# Altium footprint library PcbLib1.PcbLib: 18 footprints (part 1 of 2)
Each footprint in its own frame and in the unit in brackets; x right, y up, seen from the top. Pads: shape width x height; smd on the part's side, far side on the other; paste and mask are expansions set on the pad; w line width, h text height; cw(c..) or ccw(c..) is an arc to the next point about the centre after c.
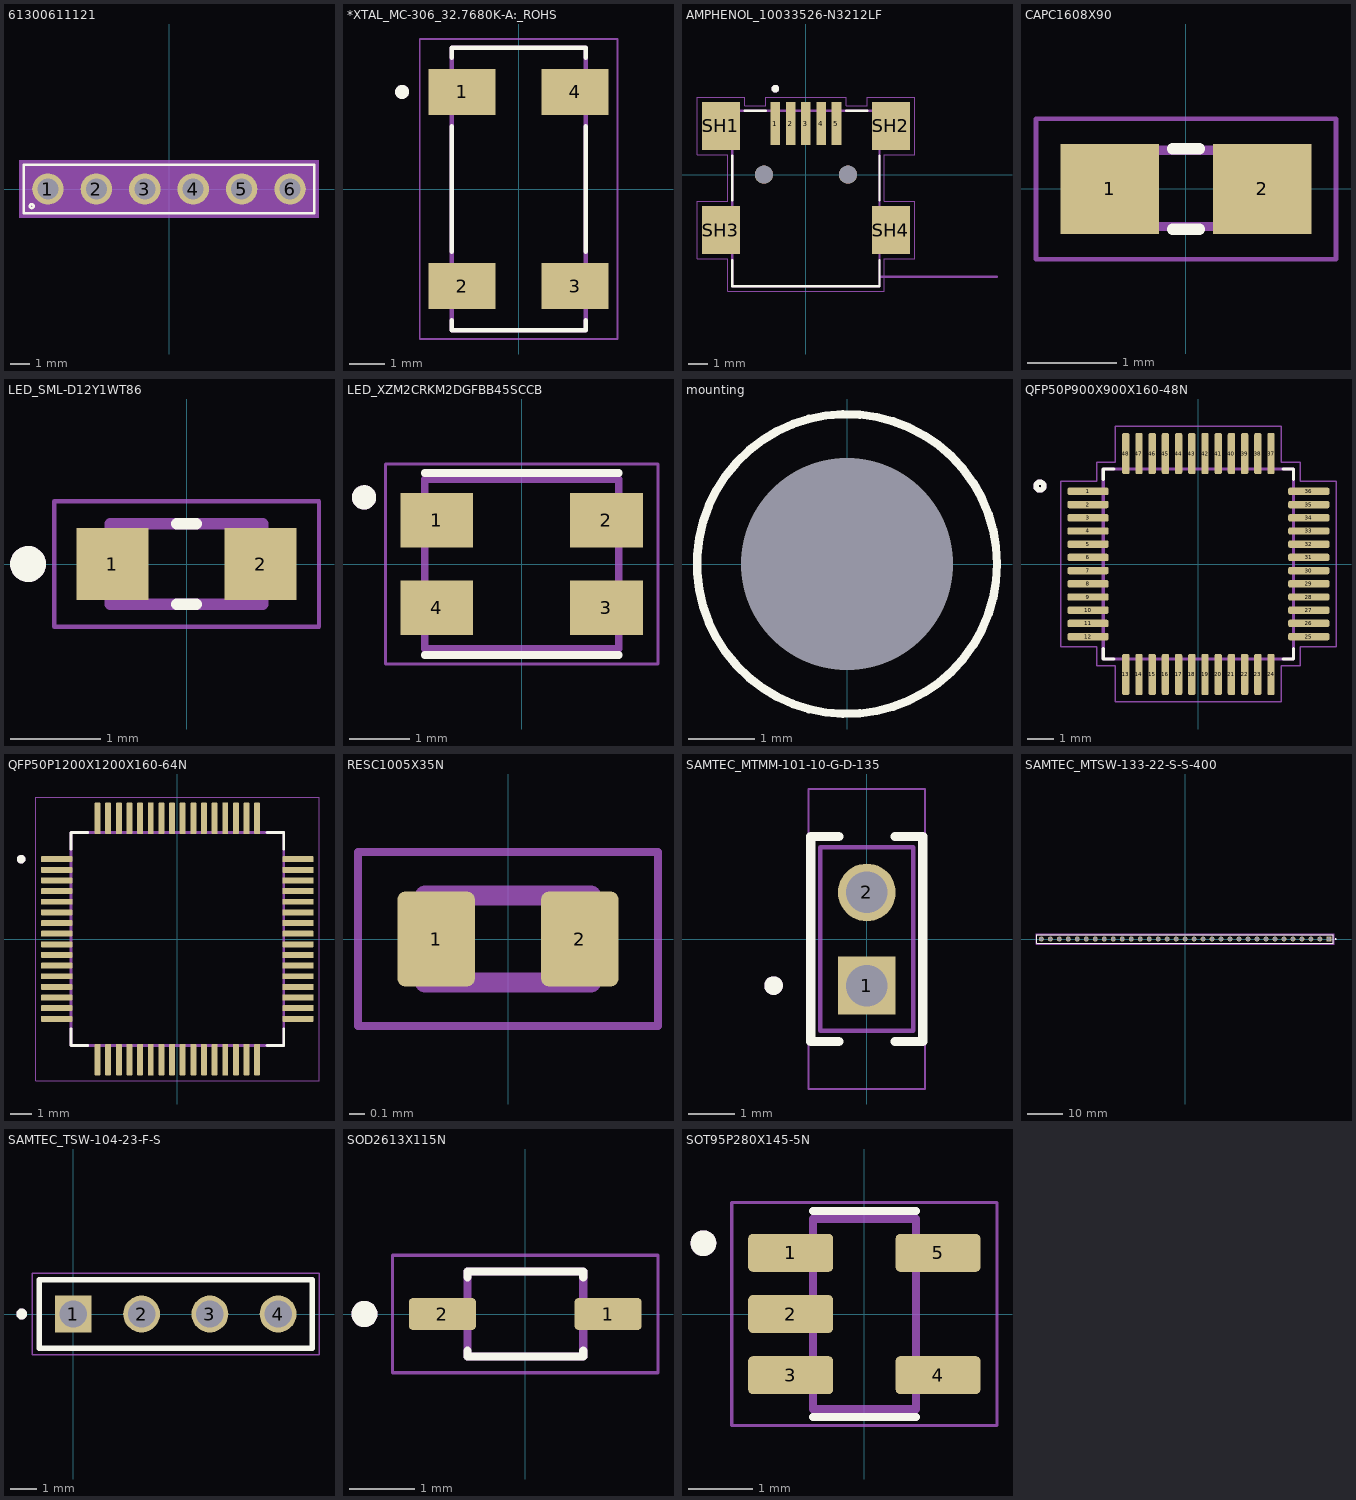
[diagram p0: the footprints below, top view; thin cyan lines are the x and y axes]

## 61300611121 [mm]
pads (6):
  round 1.65 hole 1.1: 1(-6.35,0) 2(-3.81,0) 3(-1.27,0) 4(1.27,0) 5(3.81,0) 6(6.35,0)
Top Overlay:
  circle w0.127: c-7.2,-0.9 r0.1
  lines w0.127: -7.62,-1.27 7.62,-1.27 7.62,1.27 -7.62,1.27 -7.62,-1.27
Mechanical 15:
  region: 7.87,-1.52 -7.87,-1.52 -7.87,1.52 7.87,1.52
3D body "61300611121.stp": height 8.55, standoff -2.99, extent -7.62,-1.27 7.62,1.27

## *XTAL_MC-306_32.7680K-A:_ROHS [mm]
pads (4):
  rect 1.9x1.3 smd: 1(-1.6,2.75) 2(-1.6,-2.75) 3(1.6,-2.75) 4(1.6,2.75)
Top Overlay:
  circle w0.2: c-3.3,2.75 r0.1
  lines w0.127: -1.9,-3.72 -1.9,-4 1.9,-4 1.9,-3.72 ; -1.9,-1.78 -1.9,1.78 ; -1.9,3.72 -1.9,4 1.9,4 1.9,3.72 ; 1.9,-1.78 1.9,1.78
Mechanical 4:
  circle w0.2: c-3.3,2.75 r0.1
  circle w0.2: c-3.3,2.75 r0.1
  lines w0.127: -1.9,-4 1.9,-4 ; -1.9,-4 -1.9,4 ; -1.9,-4 1.9,-4 ; -1.9,-4 -1.9,4 ; -1.9,4 1.9,4 ; -1.9,4 1.9,4 ; 1.9,-4 1.9,4 ; 1.9,-4 1.9,4
Mechanical 16:
  lines w0.05: -2.8,-4.25 2.8,-4.25 2.8,4.25 -2.8,4.25 -2.8,-4.25

## AMPHENOL_10033526-N3212LF [mm]
height 3.95
pads (11):
  rect 0.5x2.25 smd: 1(-1.6,2.675) 2(-0.8,2.675) 3(0,2.675) 4(0.8,2.675) 5(1.6,2.675)
  rect 2x2.5 smd: SH1(-4.45,2.55) SH2(4.45,2.55) SH3(-4.45,-2.9) SH4(4.45,-2.9)
  round 0.95 hole 0.95 unplated: ""(-2.2,0) ""(2.2,0)
Top Overlay:
  circle w0.2: c-1.6,4.5 r0.1
  lines w0.127: -3.85,-4.47 -3.85,-5.85 3.85,-5.85 3.85,-4.47 ; -3.85,-1.33 -3.85,0.98 ; -3.21,3.35 -2.1,3.35 ; 2.1,3.35 3.21,3.35 ; 3.85,-1.33 3.85,0.98
Mechanical 13:
  circle w0.2: c-1.6,4.5 r0.1
  lines w0.127: 10,-5.34 3.85,-5.34 ; 3.85,-5.34 3.85,-5.85 -3.85,-5.85 -3.85,3.35 3.85,3.35 3.85,-5.34
  text "PCB EDGE" at 4.254,-6.347 h0.8
Mechanical 15:
  lines w0.05: -5.7,-4.4 -5.7,-1.4 -4.1,-1.4 -4.1,1.05 -5.7,1.05 -5.7,4.05 -3.2,4.05 -3.2,3.6 -2.1,3.6 -2.1,4.05 2.1,4.05 2.1,3.6 3.2,3.6 3.2,4.05 5.7,4.05 5.7,1.05 4.1,1.05 4.1,-1.4 5.7,-1.4 5.7,-4.4 4.1,-4.4 4.1,-6.1 -4.1,-6.1 -4.1,-4.4 -5.7,-4.4
3D body "10033526-N3212LF--3DModel-STEP-554624.STEP": height 3.96, standoff -1.04, extent -4.95,-5.977 4.95,3.343

## CAPC1608X90 [mm]
pads (2):
  rect 1.1x1 smd: 1(-0.85,0) 2(0.85,0)
Top Overlay:
  lines w0.127: -0.15,-0.45 0.15,-0.45 ; -0.15,0.45 0.15,0.45
Mechanical 13:
  region: 0.83,-0.471 0.331,-0.471 0.331,0.48 0.83,0.48
  region: -0.338,-0.47 -0.839,-0.47 -0.839,0.48 -0.338,0.48
  lines w0.102: -0.356,-0.419 0.356,-0.419 ; -0.356,0.432 0.356,0.432
Mechanical 15:
  lines w0.051: -1.673,-0.783 -1.673,0.783 1.673,0.783 1.673,-0.783 -1.673,-0.783
3D body "step_temp.STEP": height 0.9, standoff 0, extent -0.8,-0.405 0.8,0.405

## LED_SML-D12Y1WT86 [mm]
pads (2):
  rect 0.8x0.8 smd: 1(-0.825,0) 2(0.825,0)
Top Overlay:
  circle w0.2: c-1.765,0 r0.1
  lines w0.127: -0.11,-0.45 0.11,-0.45 ; -0.11,0.45 0.11,0.45
Mechanical 13:
  circle w0.2: c-1.765,0 r0.1
  lines w0.127: -0.85,-0.45 -0.85,0.45 0.85,0.45 0.85,-0.45 -0.85,-0.45
Mechanical 15:
  lines w0.05: -1.475,-0.7 -1.475,0.7 1.475,0.7 1.475,-0.7 -1.475,-0.7

## LED_XZM2CRKM2DGFBB45SCCB [mm]
pads (4):
  rect 1.2x0.9 smd: 1(-1.4,0.725) 2(1.4,0.725) 3(1.4,-0.725) 4(-1.4,-0.725)
Top Overlay:
  circle w0.2: c-2.6,1.1 r0.1
  lines w0.127: -1.6,-1.5 1.6,-1.5 ; -1.6,1.5 1.6,1.5
Mechanical 13:
  circle w0.2: c-2.6,1.1 r0.1
  lines w0.127: -1.6,-1.4 -1.6,1.4 1.6,1.4 1.6,-1.4 -1.6,-1.4
Mechanical 15:
  lines w0.05: -2.25,-1.65 -2.25,1.65 2.25,1.65 2.25,-1.65 -2.25,-1.65

## mounting [mm]
pads (1):
  round 1 hole 3.2: ""(0,0)
Top Overlay:
  circle w0.127: c0,0 r2.261

## PCBComponent_1 [mm]

## QFP50P900X900X160-48N [mm]
pads (48):
  rrect50% 1.56x0.28 smd: 1(-4.18,2.75) 2(-4.18,2.25) 3(-4.18,1.75) 4(-4.18,1.25) 5(-4.18,0.75) 6(-4.18,0.25) 7(-4.18,-0.25) 8(-4.18,-0.75) 9(-4.18,-1.25) 10(-4.18,-1.75) 11(-4.18,-2.25) 12(-4.18,-2.75) 25(4.18,-2.75) 26(4.18,-2.25) 27(4.18,-1.75) 28(4.18,-1.25) 29(4.18,-0.75) 30(4.18,-0.25) 31(4.18,0.25) 32(4.18,0.75) 33(4.18,1.25) 34(4.18,1.75) 35(4.18,2.25) 36(4.18,2.75)
  rrect50% 0.28x1.56 smd: 13(-2.75,-4.18) 14(-2.25,-4.18) 15(-1.75,-4.18) 16(-1.25,-4.18) 17(-0.75,-4.18) 18(-0.25,-4.18) 19(0.25,-4.18) 20(0.75,-4.18) 21(1.25,-4.18) 22(1.75,-4.18) 23(2.25,-4.18) 24(2.75,-4.18) 37(2.75,4.18) 38(2.25,4.18) 39(1.75,4.18) 40(1.25,4.18) 41(0.75,4.18) 42(0.25,4.18) 43(-0.25,4.18) 44(-0.75,4.18) 45(-1.25,4.18) 46(-1.75,4.18) 47(-2.25,4.18) 48(-2.75,4.18)
Top Overlay:
  circle w0.2: c-6,2.95 r0.15
  lines w0.127: -3.6,-3.21 -3.6,-3.6 -3.21,-3.6 ; -3.6,3.21 -3.6,3.6 -3.21,3.6 ; 3.21,-3.6 3.6,-3.6 3.6,-3.21 ; 3.21,3.6 3.6,3.6 3.6,3.21
Mechanical 13:
  circle w0.2: c-6,2.95 r0.15
  lines w0.127: -3.6,-3.6 3.6,-3.6 3.6,3.6 -3.6,3.6 -3.6,-3.6
Mechanical 15:
  lines w0.05: -5.21,-3.14 -3.85,-3.14 -3.85,-3.85 -3.14,-3.85 -3.14,-5.21 3.14,-5.21 3.14,-3.85 3.85,-3.85 3.85,-3.14 5.21,-3.14 5.21,3.14 3.85,3.14 3.85,3.85 3.14,3.85 3.14,5.21 -3.14,5.21 -3.14,3.85 -3.85,3.85 -3.85,3.14 -5.21,3.14 -5.21,-3.14
3D body "step_temp.STEP": height 1.46, standoff -0.14, extent -4.5,-4.5 4.5,4.5

## QFP50P1200X1200X160-64N [mm]
pads (64):
  rrect25% 1.47x0.28 smd: 1(-5.67,3.75) 2(-5.67,3.25) 3(-5.67,2.75) 4(-5.67,2.25) 5(-5.67,1.75) 6(-5.67,1.25) 7(-5.67,0.75) 8(-5.67,0.25) 9(-5.67,-0.25) 10(-5.67,-0.75) 11(-5.67,-1.25) 12(-5.67,-1.75) 13(-5.67,-2.25) 14(-5.67,-2.75) 15(-5.67,-3.25) 16(-5.67,-3.75) 33(5.67,-3.75) 34(5.67,-3.25) 35(5.67,-2.75) 36(5.67,-2.25) 37(5.67,-1.75) 38(5.67,-1.25) 39(5.67,-0.75) 40(5.67,-0.25) 41(5.67,0.25) 42(5.67,0.75) 43(5.67,1.25) 44(5.67,1.75) 45(5.67,2.25) 46(5.67,2.75) 47(5.67,3.25) 48(5.67,3.75)
  rrect25% 0.28x1.47 smd: 17(-3.75,-5.67) 18(-3.25,-5.67) 19(-2.75,-5.67) 20(-2.25,-5.67) 21(-1.75,-5.67) 22(-1.25,-5.67) 23(-0.75,-5.67) 24(-0.25,-5.67) 25(0.25,-5.67) 26(0.75,-5.67) 27(1.25,-5.67) 28(1.75,-5.67) 29(2.25,-5.67) 30(2.75,-5.67) 31(3.25,-5.67) 32(3.75,-5.67) 49(3.75,5.67) 50(3.25,5.67) 51(2.75,5.67) 52(2.25,5.67) 53(1.75,5.67) 54(1.25,5.67) 55(0.75,5.67) 56(0.25,5.67) 57(-0.25,5.67) 58(-0.75,5.67) 59(-1.25,5.67) 60(-1.75,5.67) 61(-2.25,5.67) 62(-2.75,5.67) 63(-3.25,5.67) 64(-3.75,5.67)
Top Overlay:
  circle w0.2: c-7.34,3.75 r0.1
  lines w0.127: -5,-4.21 -5,-5 -4.21,-5 ; -5,4.21 -5,5 -4.21,5 ; 4.21,-5 5,-5 5,-4.21 ; 4.21,5 5,5 5,4.21
Mechanical 13:
  circle w0.2: c-7.34,3.75 r0.1
  lines w0.127: -5,-5 5,-5 5,5 -5,5 -5,-5
Mechanical 15:
  lines w0.05: -6.655,-6.655 6.655,-6.655 6.655,6.655 -6.655,6.655 -6.655,-6.655
3D body "STM32F030R8T6.STEP": height 1.46, standoff -0.14, extent -6,-6 6,6

## RESC1005X35N [mm]
pads (2):
  rrect20% 0.49x0.6 smd: 1(-0.455,0) 2(0.455,0)
Mechanical 13:
  lines w0.127: -0.525,-0.275 -0.525,0.275 0.525,0.275 0.525,-0.275 -0.525,-0.275
Mechanical 15:
  lines w0.05: -0.95,-0.55 -0.95,0.55 0.95,0.55 0.95,-0.55 -0.95,-0.55

## SAMTEC_MTMM-101-10-G-D-135 [mm]
pads (2):
  rect 1.24x1.24 hole 0.89: 1(0,-1)
  round 1.24 hole 0.89: 2(0,1)
Top Overlay:
  circle w0.2: c-2,-1 r0.1
  lines w0.2: -0.605,-2.2 -1.2,-2.2 -1.2,2.2 -0.605,2.2 ; 0.605,-2.2 1.2,-2.2 1.2,2.2 0.605,2.2
Top Paste:
  region: 0.255,1.98 0.255,1.973 0.256,1.966 0.257,1.96 0.258,1.953 0.259,1.946 0.261,1.94 0.264,1.933 0.266,1.927 0.269,1.921 0.272,1.915 0.276,1.909 0.28,1.904 0.284,1.898 0.288,1.893 0.293,1.888 0.298,1.883 0.303,1.879 0.309,1.875 0.314,1.871 0.32,1.867 0.326,1.864 0.332,1.861 0.338,1.859 0.345,1.856 0.351,1.854 0.358,1.853 0.365,1.852 0.371,1.851 0.378,1.85 0.85,1.85 0.85,0.15 -0.85,0.15 -0.85,1.85 -0.378,1.85 -0.371,1.851 -0.365,1.852 -0.358,1.853 -0.351,1.854 -0.345,1.856 -0.338,1.859 -0.332,1.861 -0.326,1.864 -0.32,1.867 -0.314,1.871 -0.309,1.875 -0.303,1.879 -0.298,1.883 -0.293,1.888 -0.288,1.893 -0.284,1.898 -0.28,1.904 -0.276,1.909 -0.272,1.915 -0.269,1.921 -0.266,1.927 -0.264,1.933 -0.261,1.94 -0.259,1.946 -0.258,1.953 -0.257,1.96 -0.256,1.966 -0.255,1.973 -0.255,1.98 -0.255,2.97 0.255,2.97
  region: 0.85,-1.85 0.378,-1.85 0.371,-1.851 0.365,-1.852 0.358,-1.853 0.351,-1.854 0.345,-1.856 0.338,-1.859 0.332,-1.861 0.326,-1.864 0.32,-1.867 0.314,-1.871 0.309,-1.875 0.303,-1.879 0.298,-1.883 0.293,-1.888 0.288,-1.893 0.284,-1.898 0.28,-1.904 0.276,-1.909 0.272,-1.915 0.269,-1.921 0.266,-1.927 0.264,-1.933 0.261,-1.94 0.259,-1.946 0.258,-1.953 0.257,-1.96 0.256,-1.966 0.255,-1.973 0.255,-1.98 0.255,-2.97 -0.255,-2.97 -0.255,-1.98 -0.255,-1.973 -0.256,-1.966 -0.257,-1.96 -0.258,-1.953 -0.259,-1.946 -0.261,-1.94 -0.264,-1.933 -0.266,-1.927 -0.269,-1.921 -0.272,-1.915 -0.276,-1.909 -0.28,-1.904 -0.284,-1.898 -0.288,-1.893 -0.293,-1.888 -0.298,-1.883 -0.303,-1.879 -0.309,-1.875 -0.314,-1.871 -0.32,-1.867 -0.326,-1.864 -0.332,-1.861 -0.338,-1.859 -0.345,-1.856 -0.351,-1.854 -0.358,-1.853 -0.365,-1.852 -0.371,-1.851 -0.378,-1.85 -0.85,-1.85 -0.85,-0.15 0.85,-0.15
Mechanical 13:
  circle w0.2: c-2,-1 r0.1
  lines w0.1: -1,-1.97 1,-1.97 1,1.97 -1,1.97 -1,-1.97
Mechanical 15:
  lines w0.05: -1.25,-3.22 1.25,-3.22 1.25,3.22 -1.25,3.22 -1.25,-3.22

## SAMTEC_MTSW-133-22-S-S-400 [mm]
pads (33):
  rect 1.37x1.37 / inner round 1.37 / far side rect 1.37x1.37 hole 1.02: 1(40.64,0)
  round 1.37 hole 1.02: 2(38.1,0) 3(35.56,0) 4(33.02,0) 5(30.48,0) 6(27.94,0) 7(25.4,0) 8(22.86,0) 9(20.32,0) 10(17.78,0) 11(15.24,0) 12(12.7,0) 13(10.16,0) 14(7.62,0) 15(5.08,0) 16(2.54,0) 17(0,0) 18(-2.54,0) 19(-5.08,0) 20(-7.62,0) 21(-10.16,0) 22(-12.7,0) 23(-15.24,0) 24(-17.78,0) 25(-20.32,0) 26(-22.86,0) 27(-25.4,0) 28(-27.94,0) 29(-30.48,0) 30(-33.02,0) 31(-35.56,0) 32(-38.1,0) 33(-40.64,0)
Top Overlay:
  circle w0.2: c42.56,0 r0.1
  lines w0.2: -41.91,-1.27 41.91,-1.27 41.91,1.27 -41.91,1.27 -41.91,-1.27
Mechanical 13:
  circle w0.2: c42.56,0 r0.1
  lines w0.1: -41.91,-1.27 -41.91,1.27 ; -41.91,-1.27 41.91,-1.27 ; -41.91,-1.27 -41.91,1.27 ; -41.91,1.27 41.91,1.27 ; -41.91,1.27 41.91,1.27 ; 41.91,-1.27 41.91,1.27 ; 41.91,-1.27 41.91,1.27
Mechanical 15:
  lines w0.05: -42.16,-1.52 42.16,-1.52 42.16,1.52 -42.16,1.52 -42.16,-1.52
3D body "MTSW-133-22-S-S-400.stp": height 12.71, standoff -3.29, extent -41.91,-1.27 41.91,1.27

## SAMTEC_TSW-104-23-F-S [mm]
pads (4):
  rect 1.37x1.37 / inner round 1.37 / far side rect 1.37x1.37 hole 1.02: 1(0,0)
  round 1.37 hole 1.02: 2(2.54,0) 3(5.08,0) 4(7.62,0)
Top Overlay:
  circle w0.2: c-1.92,0 r0.1
  lines w0.2: -1.27,-1.27 -1.27,1.27 8.89,1.27 8.89,-1.27 -1.27,-1.27
Mechanical 13:
  circle w0.2: c-1.92,0 r0.1
  lines w0.1: -1.27,-1.27 -1.27,1.27 8.89,1.27 8.89,-1.27 -1.27,-1.27
Mechanical 15:
  lines w0.05: -1.52,-1.52 -1.52,1.52 9.14,1.52 9.14,-1.52 -1.52,-1.52
3D body "TSW-104-23-F-S.stp": height 8.39, standoff -2.91, extent -1.397,-1.397 8.89,1.143

## SOD2613X115N [mm]
pads (2):
  rrect25% 1.03x0.49 smd: 1(1.27,0) 2(-1.27,0)
Top Overlay:
  circle w0.2: c-2.465,0 r0.1
  lines w0.127: -0.887,-0.565 -0.887,-0.65 0.887,-0.65 0.887,-0.565 ; -0.887,0.565 -0.887,0.65 0.887,0.65 0.887,0.565
Mechanical 13:
  circle w0.2: c-2.465,0 r0.1
  lines w0.127: -0.887,-0.65 -0.887,0.65 0.887,0.65 0.887,-0.65 -0.887,-0.65
Mechanical 15:
  lines w0.05: -2.035,-0.9 -2.035,0.9 2.035,0.9 2.035,-0.9 -2.035,-0.9
3D body "step_temp.STEP": height 1.15, standoff 0, extent -1.338,-0.65 1.338,0.65

## SOT95P280X145-5N [mm]
pads (5):
  rrect25% 1.32x0.59 smd: 1(-1.145,0.95) 2(-1.145,0) 3(-1.145,-0.95) 4(1.145,-0.95) 5(1.145,0.95)
Top Overlay:
  circle w0.2: c-2.5,1.1 r0.1
  lines w0.127: -0.8,-1.6 0.8,-1.6 ; -0.8,1.6 0.8,1.6
Mechanical 13:
  circle w0.2: c-2.5,1.1 r0.1
  lines w0.127: -0.8,-1.48 0.8,-1.48 0.8,1.48 -0.8,1.48 -0.8,-1.48
Mechanical 15:
  lines w0.05: -2.06,-1.73 -2.06,1.73 2.06,1.73 2.06,-1.73 -2.06,-1.73
3D body "ld3985m33r.stp": height 1.11, standoff -0.07, extent -1.397,-1.475 1.403,1.475